# EAGLE library part LT1021 (library SquantorLinearTechnology)
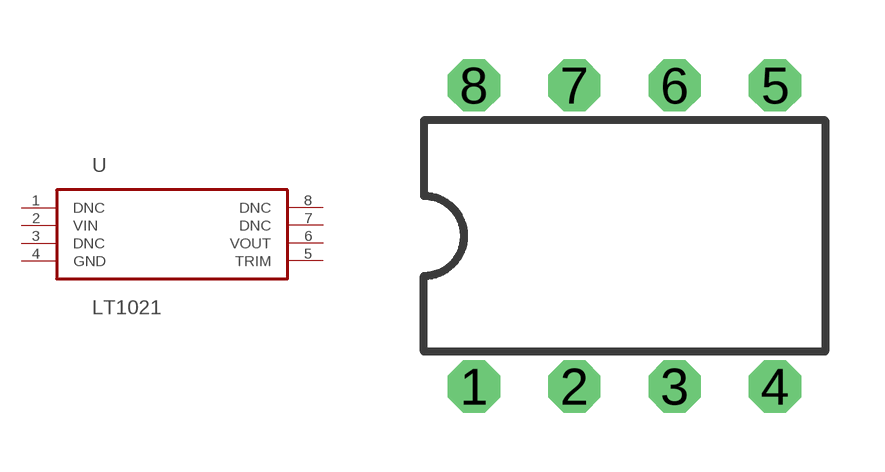
[diagram p4: symbol with the pads of N8-PDIP8; footprint N8-PDIP8]

Designator prefix -

## LT1021  [N8-PDIP8]
1  DNC
2  VIN
3  DNC
4  GND
5  TRIM
6  VOUT
7  DNC
8  DNC

## Footprint N8-PDIP8 (pad centres in mm)
drill 0.813 octagon: 1 -3.81,-3.81; 2 -1.27,-3.81; 3 1.27,-3.81; 4 3.81,-3.81; 5 3.81,3.81; 6 1.27,3.81; 7 -1.27,3.81; 8 -3.81,3.81